# Altium footprint library HC-49S.PcbLib: 1 footprints
Each footprint in its own frame and in the unit in brackets; x right, y up, seen from the top. Pads: shape width x height; smd on the part's side, far side on the other; paste and mask are expansions set on the pad; w line width, h text height; cw(c..) or ccw(c..) is an arc to the next point about the centre after c.
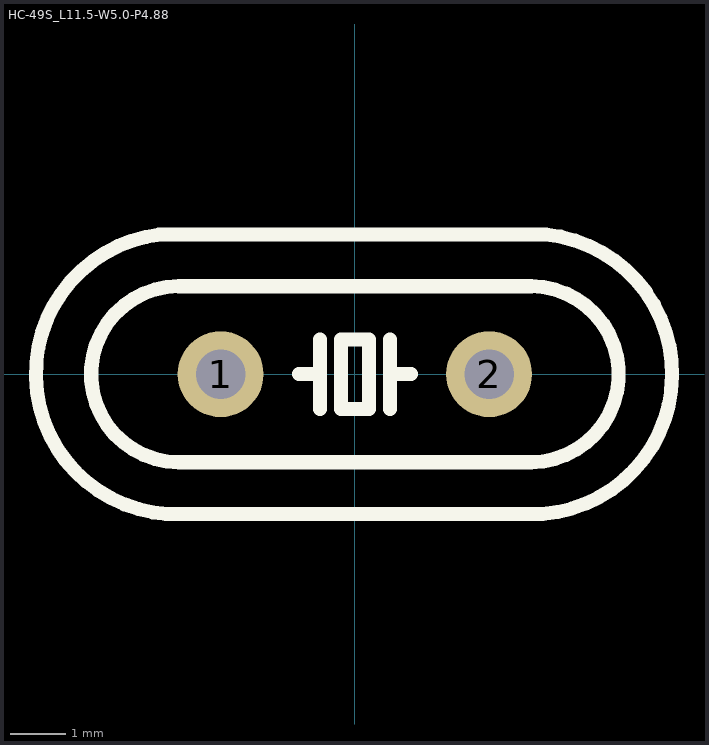
[diagram p0: the footprint, top view; thin cyan lines are the x and y axes]

## HC-49S_L11.5-W5.0-P4.88 [mm]
pads (2):
  round 1.56 hole 0.9 paste-2539.97 mask+0.051: 1(-2.44,0) 2(2.44,0)
Top Overlay:
  lines w0.254: -3.556,2.54 3.473,2.54 cw(c3.216,0.003) 3.411,-2.54 -3.429,-2.54 ; -3.524,2.54 ccw(c-3.248,0.006) -3.397,-2.54 ; -1.016,0 -0.635,0 ; -0.635,-0.635 -0.635,0 ; -0.635,0.635 -0.635,0 ; 0.635,-0.635 0.635,0 ; 0.635,0.635 0.635,0 ; 1.016,0 0.635,0 ; -0.254,-0.635 -0.254,0.635 0.254,0.635 0.254,-0.635 -0.254,-0.635
  lines w0.258: -3.2,-1.6 cw(c-3.194,0) -3.2,1.6 3.2,1.6 cw(c3.194,0) 3.2,-1.6 -3.2,-1.6